# Altium schematic symbol library ERA-8ARW7152V.SchLib: 1 symbol
Pins are listed as number, name and electrical type; pins without a type are passive.

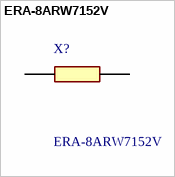
[diagram p0: symbol ERA-8ARW7152V]

## ERA-8ARW7152V
designator X?
Thin Film Resistors - SMD 1206 71.5Kohms 0.05% 0.25W 10ppm AEC-Q200; Manufacturer_Name: Panasonic; Geometry.Height: 0.7mm; Manufacturer_Part_Number: ERA-8ARW7152V; Mouser Part Number: 667-ERA-8ARW7152V; Mouser Price/Stock: https://www.mouser.com/Search/Refine.aspx?Keyword=667-ERA-8ARW7152V; Arrow Part Number: *; Arrow Price/Stock: *; Mouser Testing Part Number: *; Mouser Testing Price/Stock: *; Datasheet Link: http://industrial.panasonic.com/cdbs/www-data/pdf/RDM0000/AOA0000C307.pdf
footprint ERA8A_(0805)
pins: 1, 2